# EAGLE library part ADUM5400 (library 16A-01)
Quad-Channel Isolator with Integrated DC-to-DC Converter
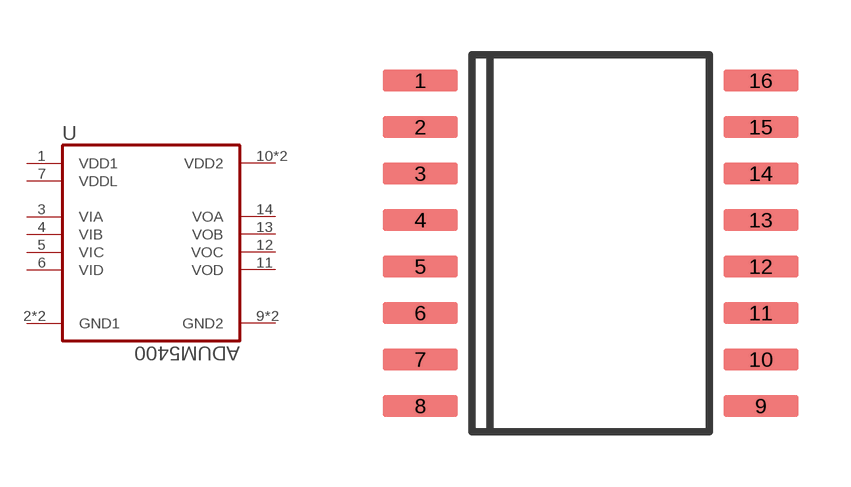
[diagram p2: symbol with the pads of SOIC127P1032X265-16N; footprint SOIC127P1032X265-16N]

Designator prefix U

## ADUM5400  [SOIC127P1032X265-16N]
1  VDD1  pwr
2  GND1  pas
3  VIA  in
4  VIB
5  VIC
6  VID
7  VDDL
8  GND1  pas
9  GND2  pas
10  VDD2  pwr
11  VOD
12  VOC
13  VOB
14  VOA  in
15  GND2  pas
16  VDD2  pwr

## Footprint SOIC127P1032X265-16N (pad centres in mm)
smd 2.05 x 0.6: 1 -4.655,4.445; 2 -4.655,3.175; 3 -4.655,1.905; 4 -4.655,0.635; 5 -4.655,-0.635; 6 -4.655,-1.905; 7 -4.655,-3.175; 8 -4.655,-4.445; 9 4.655,-4.445; 10 4.655,-3.175; 11 4.655,-1.905; 12 4.655,-0.635; 13 4.655,0.635; 14 4.655,1.905; 15 4.655,3.175; 16 4.655,4.445